# Altium schematic symbol library ESC.SchLib: 65 symbols
Pins are listed as number, name and electrical type; pins without a type are passive.

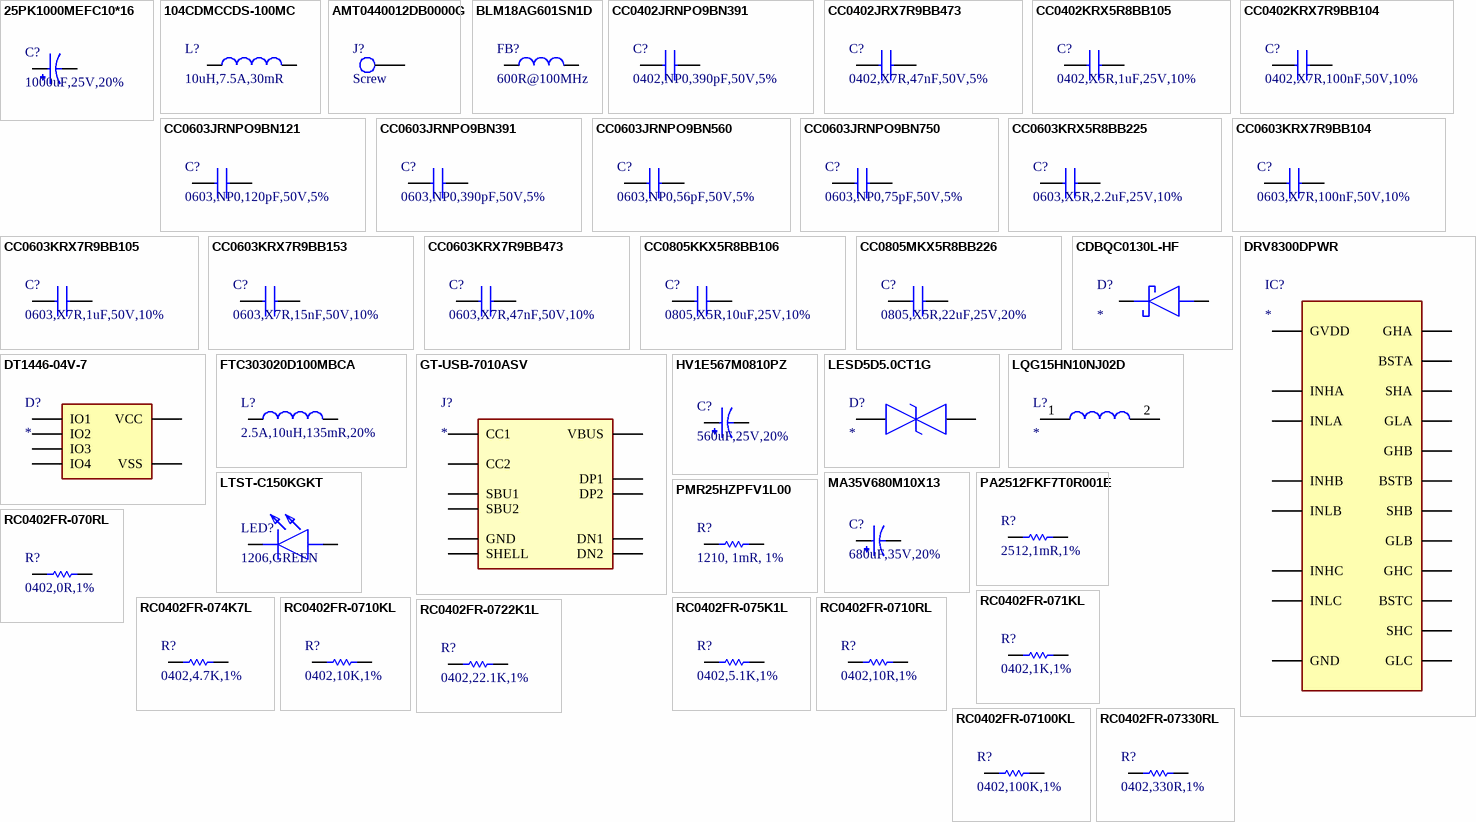
[diagram p0: symbols 25PK1000MEFC10*16 to RC0402FR-07330RL]

## 25PK1000MEFC10*16
designator C?, comment 1000uF,25V,20%
1000uF 25V ±20% 870mA@120Hz Through Hole,D10xL16mm Aluminum Electrolytic Capacitors - Leaded ROHS; LCSC Part #: C109451
footprint CAP-TH_BD10.0-P5.00-D1.0-FD
pins: 1, 2

## 104CDMCCDS-100MC
designator L?, comment 10uH,7.5A,30mR
10 µH Shielded Molded Inductor 7.5 A 30mOhm Max Nonstandard; Manufacturer_Name: Sumida; Manufacturer_Part_Number: 104CDMCCDS-100MC; Datasheet Link: https://componentsearchengine.com/Datasheets/1/104CDMCCDS-100MC.pdf; Height: 4mm; Mouser Part Number: 851-104CDMCCDS-100MC; Mouser Price/Stock: https://www.mouser.co.uk/ProductDetail/Sumida/104CDMCCDS-100MC?qs=D3efs7kfDkXYkMvk7UdnpA%3D%3D; Arrow Part Number: 104CDMCCDS-100MC; Arrow Price/Stock: https://www.arrow.com/en/products/104cdmccds-100mc/sumida?utm_currency=USD&region=nac; LCSC Part #: C2961894
footprint 104CDMCCDS100MC
pins: 1, 2

## AMT0440012DB0000G
designator J?, comment Screw
4 Pin Screw Terminal, Power Tap M4 Through Hole, Right Angle; Manu Part #: AMT0440012DB0000G
footprint AMT0440012DB0000G
pins: 1, 2, 3, 4

## BLM18AG601SN1D
designator FB?, comment 600R@100MHz
380mΩ ±25% 600Ω@100MHz 0603 Ferrite Beads ROHS; LCSC Part #: C19330
footprint L0603
pins: 1, 2

## CC0402JRNPO9BN391
designator C?, comment 0402,NP0,390pF,50V,5%
390 pF ±5% 50V Ceramic Capacitor C0G, NP0 0402 (1005 Metric); Manufacturer_Name: YAGEO; Manufacturer_Part_Number: CC0402KRX7R9BB104; Manu Part #: CC0402JRNPO9BN391; Datasheet Link: https://4donline.ihs.com/images/VipMasterIC/IC/YAGO/YAGO-S-A0003557223/YAGO-S-A0003557223-1.pdf?hkey=6D3A4C79FDBF58556ACFDE234799DDF0; Height: 0.55mm; Mouser Part Number: 603-CC402KRX7R9BB104; Mouser Price/Stock: https://www.mouser.co.uk/ProductDetail/YAGEO/CC0402KRX7R9BB104?qs=vRUrOTOuwyGrQb4GbTIVjw%3D%3D; Arrow Part Number: CC0402KRX7R9BB104; Arrow Price/Stock: https://www.arrow.com/en/products/cc0402krx7r9bb104/yageo?utm_currency=USD&region=europe; LCSC Part #: C282239
footprint CAPC1005X55N
pins: 1, 2

## CC0402JRX7R9BB473
designator C?, comment 0402,X7R,47nF,50V,5%
0.047 µF ±5% 50V Ceramic Capacitor X7R 0402 (1005 Metric); Manufacturer_Name: YAGEO; Manufacturer_Part_Number: CC0402JRX7R9BB473; Datasheet Link: https://4donline.ihs.com/images/VipMasterIC/IC/YAGO/YAGO-S-A0003557223/YAGO-S-A0003557223-1.pdf?hkey=6D3A4C79FDBF58556ACFDE234799DDF0; Height: 0.55mm; Mouser Part Number: 603-CC402KRX7R9BB104; Mouser Price/Stock: https://www.mouser.co.uk/ProductDetail/YAGEO/CC0402KRX7R9BB104?qs=vRUrOTOuwyGrQb4GbTIVjw%3D%3D; Arrow Part Number: CC0402KRX7R9BB104; Arrow Price/Stock: https://www.arrow.com/en/products/cc0402krx7r9bb104/yageo?utm_currency=USD&region=europe; Manu Part #: CC0402JRX7R9BB473; LCSC Part #: C576715
footprint CAPC1005X55N
pins: 1, 2

## CC0402KRX5R8BB105
designator C?, comment 0402,X5R,1uF,25V,10%
1 µF ±10% 25V Ceramic Capacitor X5R 0402 (1005 Metric); Manufacturer_Name: YAGEO; Manufacturer_Part_Number: CC0402KRX7R9BB104; Manu Part #: CC0402KRX5R8BB105; Datasheet Link: https://4donline.ihs.com/images/VipMasterIC/IC/YAGO/YAGO-S-A0003557223/YAGO-S-A0003557223-1.pdf?hkey=6D3A4C79FDBF58556ACFDE234799DDF0; Height: 0.55mm; Mouser Part Number: 603-CC402KRX7R9BB104; Mouser Price/Stock: https://www.mouser.co.uk/ProductDetail/YAGEO/CC0402KRX7R9BB104?qs=vRUrOTOuwyGrQb4GbTIVjw%3D%3D; Arrow Part Number: CC0402KRX7R9BB104; Arrow Price/Stock: https://www.arrow.com/en/products/cc0402krx7r9bb104/yageo?utm_currency=USD&region=europe; LCSC Part #: C326568
footprint CAPC1005X55N
pins: 1, 2

## CC0402KRX7R9BB104
designator C?, comment 0402,X7R,100nF,50V,10%
0.1 µF ±10% 50V Ceramic Capacitor X7R 0402 (1005 Metric); Manufacturer_Name: YAGEO; Manufacturer_Part_Number: CC0402KRX7R9BB104; Datasheet Link: https://4donline.ihs.com/images/VipMasterIC/IC/YAGO/YAGO-S-A0003557223/YAGO-S-A0003557223-1.pdf?hkey=6D3A4C79FDBF58556ACFDE234799DDF0; Height: 0.55mm; Mouser Part Number: 603-CC402KRX7R9BB104; Mouser Price/Stock: https://www.mouser.co.uk/ProductDetail/YAGEO/CC0402KRX7R9BB104?qs=vRUrOTOuwyGrQb4GbTIVjw%3D%3D; Arrow Part Number: CC0402KRX7R9BB104; Arrow Price/Stock: https://www.arrow.com/en/products/cc0402krx7r9bb104/yageo?utm_currency=USD&region=europe; Manu Part #: CC0402KRX7R9BB104; LCSC Part #: C131394
footprint CAPC1005X55N
pins: 1, 2

## CC0603JRNPO9BN121
designator C?, comment 0603,NP0,120pF,50V,5%
50V 120pF NP0 ±5% 0603 Multilayer Ceramic Capacitors MLCC - SMD/SMT ROHS; Manufacturer_Name: YAGEO; Manufacturer_Part_Number: CC0603JRNPO9BN121; Datasheet Link: https://componentsearchengine.com/Datasheets/2/CC0603KRX7R9BB104.pdf; Height: 0.9mm; Mouser Part Number: 603-CC603KRX7R9BB104; Mouser Price/Stock: https://www.mouser.co.uk/ProductDetail/YAGEO/CC0603KRX7R9BB104?qs=vTakOoo5QyLvVCYM2ge8LQ%3D%3D; Arrow Part Number: CC0603KRX7R9BB104; Arrow Price/Stock: https://www.arrow.com/en/products/cc0603krx7r9bb104/yageo?utm_currency=USD&region=europe; LCSC Part #: C107035
footprint CAPC1608X90N
pins: 1, 2

## CC0603JRNPO9BN391
designator C?, comment 0603,NP0,390pF,50V,5%
50V 390pF NP0 ±5% 0603 Ceramic Capacitors RoHS; Manufacturer_Name: YAGEO; Manufacturer_Part_Number: CC0603JRNPO9BN750; Manu Part #: CC0603JRNPO9BN391; Datasheet Link: https://www.yageo.com/upload/media/product/app/datasheet/mlcc/upy-gphc_x7r_6_3v-to-250v.pdf; Height: 0.95mm; Mouser Part Number: 603-CC603KRX7R9BB105; Mouser Price/Stock: https://www.mouser.co.uk/ProductDetail/YAGEO/CC0603KRX7R9BB105?qs=6wERJjOp3mmF17%252BYi8cgJQ%3D%3D; Arrow Part Number: CC0603KRX7R9BB105; Arrow Price/Stock: https://www.arrow.com/en/products/cc0603krx7r9bb105/yageo?utm_currency=USD&region=nac; LCSC Part #: C107050
footprint CAPC1608X90N
pins: 1, 2

## CC0603JRNPO9BN560
designator C?, comment 0603,NP0,56pF,50V,5%
50V 56pF NP0 ±5% 0603 Ceramic Capacitors RoHS; Manufacturer_Name: YAGEO; Manufacturer_Part_Number: CC0603JRNPO9BN560; Datasheet Link: https://www.yageo.com/upload/media/product/app/datasheet/mlcc/upy-gphc_x7r_6_3v-to-250v.pdf; Height: 0.95mm; Mouser Part Number: 603-CC603KRX7R9BB105; Mouser Price/Stock: https://www.mouser.co.uk/ProductDetail/YAGEO/CC0603KRX7R9BB105?qs=6wERJjOp3mmF17%252BYi8cgJQ%3D%3D; Arrow Part Number: CC0603KRX7R9BB105; Arrow Price/Stock: https://www.arrow.com/en/products/cc0603krx7r9bb105/yageo?utm_currency=USD&region=nac; LCSC Part #: C107053
footprint CAPC1608X90N
pins: 1, 2

## CC0603JRNPO9BN750
designator C?, comment 0603,NP0,75pF,50V,5%
50V 75pF NP0 ±5% 0603 Ceramic Capacitors RoHS; Manufacturer_Name: YAGEO; Manufacturer_Part_Number: CC0603JRNPO9BN750; Datasheet Link: https://www.yageo.com/upload/media/product/app/datasheet/mlcc/upy-gphc_x7r_6_3v-to-250v.pdf; Height: 0.95mm; Mouser Part Number: 603-CC603KRX7R9BB105; Mouser Price/Stock: https://www.mouser.co.uk/ProductDetail/YAGEO/CC0603KRX7R9BB105?qs=6wERJjOp3mmF17%252BYi8cgJQ%3D%3D; Arrow Part Number: CC0603KRX7R9BB105; Arrow Price/Stock: https://www.arrow.com/en/products/cc0603krx7r9bb105/yageo?utm_currency=USD&region=nac; LCSC Part #: C282074
footprint CAPC1608X90N
pins: 1, 2

## CC0603KRX5R8BB225
designator C?, comment 0603,X5R,2.2uF,25V,10%
2.2 µF ±10% 25V Ceramic Capacitor X5R 0603 (1608 Metric); Manufacturer_Name: YAGEO; Manufacturer_Part_Number: CC0603JRNPO9BN560; Manu Part #: CC0603KRX5R8BB225; Datasheet Link: https://www.yageo.com/upload/media/product/app/datasheet/mlcc/upy-gphc_x7r_6_3v-to-250v.pdf; Height: 0.95mm; Mouser Part Number: 603-CC603KRX7R9BB105; Mouser Price/Stock: https://www.mouser.co.uk/ProductDetail/YAGEO/CC0603KRX7R9BB105?qs=6wERJjOp3mmF17%252BYi8cgJQ%3D%3D; Arrow Part Number: CC0603KRX7R9BB105; Arrow Price/Stock: https://www.arrow.com/en/products/cc0603krx7r9bb105/yageo?utm_currency=USD&region=nac; LCSC Part #: C309478
footprint CAPC1608X90N
pins: 1, 2

## CC0603KRX7R9BB104
designator C?, comment 0603,X7R,100nF,50V,10%
50V 100nF X7R ±10% 0603 Multilayer Ceramic Capacitors MLCC - SMD/SMT ROHS; Manufacturer_Name: YAGEO; Manufacturer_Part_Number: CC0603KRX7R9BB104; Datasheet Link: https://componentsearchengine.com/Datasheets/2/CC0603KRX7R9BB104.pdf; Height: 0.9mm; Mouser Part Number: 603-CC603KRX7R9BB104; Mouser Price/Stock: https://www.mouser.co.uk/ProductDetail/YAGEO/CC0603KRX7R9BB104?qs=vTakOoo5QyLvVCYM2ge8LQ%3D%3D; Arrow Part Number: CC0603KRX7R9BB104; Arrow Price/Stock: https://www.arrow.com/en/products/cc0603krx7r9bb104/yageo?utm_currency=USD&region=europe; LCSC Part #: C14663
footprint CAPC1608X90N
pins: 1, 2

## CC0603KRX7R9BB105
designator C?, comment 0603,X7R,1uF,50V,10%
50V 1uF X7R ±10% 0603 Multilayer Ceramic Capacitors MLCC - SMD/SMT ROHS; Manufacturer_Name: YAGEO; Manufacturer_Part_Number: CC0603KRX7R9BB105; Datasheet Link: https://www.yageo.com/upload/media/product/app/datasheet/mlcc/upy-gphc_x7r_6_3v-to-250v.pdf; Height: 0.95mm; Mouser Part Number: 603-CC603KRX7R9BB105; Mouser Price/Stock: https://www.mouser.co.uk/ProductDetail/YAGEO/CC0603KRX7R9BB105?qs=6wERJjOp3mmF17%252BYi8cgJQ%3D%3D; Arrow Part Number: CC0603KRX7R9BB105; Arrow Price/Stock: https://www.arrow.com/en/products/cc0603krx7r9bb105/yageo?utm_currency=USD&region=nac; LCSC Part #: C559769
footprint CAPC1608X90N
pins: 1, 2

## CC0603KRX7R9BB153
designator C?, comment 0603,X7R,15nF,50V,10%
50V 15nF X7R ±10% 0603 Multilayer Ceramic Capacitors MLCC - SMD/SMT ROHS; Manufacturer_Name: YAGEO; Manufacturer_Part_Number: CC0603KRX7R9BB153; Datasheet Link: https://componentsearchengine.com/Datasheets/2/CC0603KRX7R9BB104.pdf; Height: 0.9mm; Mouser Part Number: 603-CC603KRX7R9BB104; Mouser Price/Stock: https://www.mouser.co.uk/ProductDetail/YAGEO/CC0603KRX7R9BB104?qs=vTakOoo5QyLvVCYM2ge8LQ%3D%3D; Arrow Part Number: CC0603KRX7R9BB104; Arrow Price/Stock: https://www.arrow.com/en/products/cc0603krx7r9bb104/yageo?utm_currency=USD&region=europe; LCSC Part #: C107076
footprint CAPC1608X90N
pins: 1, 2

## CC0603KRX7R9BB473
designator C?, comment 0603,X7R,47nF,50V,10%
50V 47nF X7R ±10% 0603 Ceramic Capacitors RoHS; Manufacturer_Name: YAGEO; Manufacturer_Part_Number: CC0603JRNPO9BN750; Manu Part #: CC0603KRX7R9BB473; Datasheet Link: https://www.yageo.com/upload/media/product/app/datasheet/mlcc/upy-gphc_x7r_6_3v-to-250v.pdf; Height: 0.95mm; Mouser Part Number: 603-CC603KRX7R9BB105; Mouser Price/Stock: https://www.mouser.co.uk/ProductDetail/YAGEO/CC0603KRX7R9BB105?qs=6wERJjOp3mmF17%252BYi8cgJQ%3D%3D; Arrow Part Number: CC0603KRX7R9BB105; Arrow Price/Stock: https://www.arrow.com/en/products/cc0603krx7r9bb105/yageo?utm_currency=USD&region=nac; LCSC Part #: C107093
footprint CAPC1608X90N
pins: 1, 2

## CC0805KKX5R8BB106
designator C?, comment 0805,X5R,10uF,25V,10%
10 µF ±10% 25V Ceramic Capacitor X5R 0805 (2012 Metric); Manufacturer_Name: YAGEO; Manufacturer_Part_Number: CC0805KKX5R8BB106; Datasheet Link: https://www.yageo.com/upload/media/product/productsearch/datasheet/mlcc/UPY-GPHC_X5R_4V-to-50V_27.pdf; Height: 1.45mm; Mouser Part Number: 603-CC805KKX5R8BB106; Mouser Price/Stock: https://www.mouser.co.uk/ProductDetail/YAGEO/CC0805KKX5R8BB106?qs=57cj7OiSijm89pM64t1AGQ%3D%3D; Arrow Part Number: CC0805KKX5R8BB106; Arrow Price/Stock: https://www.arrow.com/en/products/cc0805kkx5r8bb106/yageo?utm_currency=USD&region=nac; LCSC Part #: C89831
footprint CAPC2012X145N
pins: 1, 2

## CC0805MKX5R8BB226
designator C?, comment 0805,X5R,22uF,25V,20%
25V 22uF X5R ±20% 0805 Ceramic Capacitors RoHS; Manufacturer_Name: YAGEO; Manufacturer_Part_Number: CC0805MKX5R8BB226; Datasheet Link: https://www.yageo.com/upload/media/product/productsearch/datasheet/mlcc/UPY-GPHC_X5R_4V-to-50V_27.pdf; Height: 1.45mm; Mouser Part Number: 603-CC805KKX5R8BB106; Mouser Price/Stock: https://www.mouser.co.uk/ProductDetail/YAGEO/CC0805KKX5R8BB106?qs=57cj7OiSijm89pM64t1AGQ%3D%3D; Arrow Part Number: CC0805KKX5R8BB106; Arrow Price/Stock: https://www.arrow.com/en/products/cc0805kkx5r8bb106/yageo?utm_currency=USD&region=nac; LCSC Part #: C784585
footprint CAPC2012X145N
pins: 1, 2

## CDBQC0130L-HF
designator D?
Diode 30 V 100mA Surface Mount 0402C/SOD-923F; Manufacturer_Name: Comchip Technology; Manufacturer_Part_Number: CDBQC0130L-HF; Datasheet Link: https://www.comchiptech.com/admin/files/product/CDBQC0130L-HF%20RevB681116.pdf; Height: 0.55mm; Mouser Part Number: 750-CDBQC0130L-HF; Mouser Price/Stock: https://www.mouser.co.uk/ProductDetail/Comchip-Technology/CDBQC0130L-HF?qs=YlpJWyuQ3PMlIcuiqEd%2FoA%3D%3D; Arrow Part Number: CDBQC0130L-HF; Arrow Price/Stock: https://www.arrow.com/en/products/cdbqc0130l-hf/comchip-technology?utm_currency=USD&region=nac; Manu Part #: CDBQC0130L-HF; LCSC Part #: C2886012
footprint CDBQC0130LHF
pins: 1 K, 2 A

## DRV8300DPWR
designator IC?
TSSOP-20 Brushless DC (BLDC) Motor Driver ROHS; Manufacturer_Name: Texas Instruments; Manufacturer_Part_Number: DRV8300DPWR; Height: 1.2mm; Mouser Part Number: 595-DRV8300DPWR; Mouser Price/Stock: https://www.mouser.co.uk/ProductDetail/Texas-Instruments/DRV8300DPWR?qs=eP2BKZSCXI6qJbKdYnGwBg%3D%3D; Arrow Part Number: DRV8300DPWR; Arrow Price/Stock: https://www.arrow.com/en/products/drv8300dpwr/texas-instruments?utm_currency=USD&region=nac; LCSC Part #: C3036056
footprint SOP65P640X120-20N
pins: 1 INHA, 2 INHB, 3 INHC, 4 INLA, 5 INLB, 6 INLC, 7 GVDD, 8 GND, 9 GLC, 10 GLB, 11 GLA, 12 SHC, 13 GHC, 14 BSTC, 15 SHB, 16 GHB, 17 BSTB, 18 SHA, 19 GHA, 20 BSTA

## DT1446-04V-7
designator D?
8.5V Clamp 4.7A (8/20µs) Ipp Tvs Diode Surface Mount SOT-563; Manufacturer_Name: Diodes Incorporated; Manufacturer_Part_Number: DT1446-04V-7; Datasheet Link: https://www.diodes.com//assets/Datasheets/DT1446-04V.pdf; Height: 0.6mm; Mouser Part Number: 621-DT1446-04V-7; Mouser Price/Stock: https://www.mouser.co.uk/ProductDetail/Diodes-Incorporated/DT1446-04V-7?qs=5V6w%252Be2aIqaQkUd2yRdmdA%3D%3D; Arrow Part Number: DT1446-04V-7; Arrow Price/Stock: https://www.arrow.com/en/products/dt1446-04v-7/diodes-incorporated; Manu Part #: DT1446-04V-7; LCSC Part #: C460066
footprint SOTFL50P162X60-6N
pins: 1 IO1, 2 VSS, 3 IO2, 4 IO3, 5 VCC, 6 IO4

## FTC303020D100MBCA
designator L?, comment 2.5A,10uH,135mR,20%
2.5A 10uH ±20% 3.8A 135mΩ SMD,3x3mm Fixed Inductors RoHS; Manu Part #: FTC303020D100MBCA; LCSC Part #: C7423323
footprint IND-SMD_L3.0-W3.0_FTC303020D
pins: 1, 2

## GT-USB-7010ASV
designator J?
USB 2.0 3A 1 Surface Mount, Right Angle 16P Female -40℃~+85℃ Type-C SMD USB Connectors ROHS; Manu Part #: GT-USB-7010ASV; LCSC Part #: C2988369
footprint USB-C-SMD_G-SWITCH_GT-USB-7010ASV
pins: 1 SHELL, 2 SHELL, 3 SHELL, 4 SHELL, A1B12 GND, A4B9 VBUS, A5 CC1, A6 DP1, A7 DN1, A8 SBU1, B1A12 GND, B4A9 VBUS, B5 CC2, B6 DP2, B7 DN2, B8 SBU2

## HV1E567M0810PZ
designator C?, comment 560uF,25V,20%
25V 560uF ±20% SMD,D8xL10.5mm Aluminum - Polymer Capacitors RoHS; Manu Part #: HV1E567M0810PZ; LCSC Part #: C5246548
footprint CAP-SMD_BD8.0-L8.3-W8.3-FD
pins: 1, 2

## LESD5D5.0CT1G
designator D?
9.4A 18.6V 5.6V Bidirectional 5V SOD-523 ESD and Surge Protection (TVS/ESD) ROHS; Manufacturer_Name: LRC; Manufacturer_Part_Number: LESD5D5.0CT1G; Height: 0.7mm; LCSC Part #: C383211
footprint LESD5D50CT1G
pins: 1, 2

## LQG15HN10NJ02D
designator L?
Inductor; Manufacturer_Name: Murata Electronics; Manufacturer_Part_Number: LQG15HN10NJ02D; Datasheet Link: https://search.murata.co.jp/Ceramy/image/img/P02/JELF243B-0009.pdf; Height: 0.6mm; Mouser Part Number: 81-LQG15HN10NJ02D; Mouser Price/Stock: https://www.mouser.co.uk/ProductDetail/Murata-Electronics/LQG15HN10NJ02D?qs=6Rxi8erFDnyLVNlqv7OZMg%3D%3D; Arrow Part Number: LQG15HN10NJ02D; Arrow Price/Stock: https://www.arrow.com/en/products/lqg15hn10nj02d/murata-manufacturing
footprint LQG15WH0N7B02D
pins: 1, 2

## LTST-C150KGKT
designator LED?, comment 1206,GREEN
20mA 44.5mcd Water Clear -55℃~+85℃ 571nm Yellow Green 130° 75mW 2V 1206 LED Indication - Discrete ROHS; Manufacturer_Name: Lite-On; Manufacturer_Part_Number: LTST-C150KGKT; Datasheet Link: http://optoelectronics.liteon.com/upload/download/ds22-2000-072/ltst-c150kgkt.pdf; Height: 1.2mm; Mouser Part Number: 859-LTST-C150KGKT; Mouser Price/Stock: https://www.mouser.co.uk/ProductDetail/Lite-On/LTST-C150KGKT?qs=G7lFeYdtIHB%2FzaFKBwEyXw%3D%3D; Arrow Part Number: LTST-C150KGKT; Arrow Price/Stock: https://www.arrow.com/en/products/ltst-c150kgkt/lite-on-technology?utm_currency=USD&region=nac; LCSC Part #: C125085; Manu Part #: LTST-C150KGKT
footprint LEDC3216X120N
pins: 1 K, 2 A

## MA35V680M10X13
designator C?, comment 680uF,35V,20%
35V 680uF Polymer ±20% 18mΩ@100kHz 3.9A@100kHz SMD,D10xL13.5mm Aluminum - Polymer Capacitors RoHS; LCSC Part #: C48971043
footprint CAP-SMD_BD10.0-L10.3-W10.3-FD-LS11.0_H12.0
pins: 1, 2

## PA2512FKF7T0R001E
designator R?, comment 2512,1mR,1%
3W 1mΩ Surface Mount Current Sense Resistor ±100ppm/℃ ±1% 2512 Current Sense Resistors / Shunt Resistors ROHS; LCSC Part #: C723380
footprint RES-SMD_L6.4-W3.2_RLP25
pins: 1, 2

## PMR25HZPFV1L00
designator R?, comment 1210, 1mR, 1%
1W 1mΩ Current Sense Resistor ±100ppm/℃ ±1% 1210 Current Sense Resistors / Shunt Resistors ROHS; LCSC Part #: C509735
footprint R1210
pins: 1, 2

## RC0402FR-070RL
designator R?, comment 0402,0R,1%
0 Ohms Jumper Chip Resistor 0402 (1005 Metric) Moisture Resistant Thick Film; Manufacturer_Name: YAGEO; Manufacturer_Part_Number: RC0402FR-0710KL; Manu Part #: RC0402FR-070RL; Datasheet Link: https://componentsearchengine.com/Datasheets/2/RC0402FR-0710KL.pdf; Height: 0.4mm; Mouser Part Number: 603-RC0402FR-0710KL; Mouser Price/Stock: https://www.mouser.co.uk/ProductDetail/YAGEO/RC0402FR-0710KL?qs=I1mnnYJTTsxUoNwrUsQExA%3D%3D; Arrow Part Number: RC0402FR-0710KL; Arrow Price/Stock: https://www.arrow.com/en/products/rc0402fr-0710kl/yageo?region=europe; LCSC Part #: C106231
footprint RESC1005X40N
pins: 1, 2

## RC0402FR-071KL
designator R?, comment 0402,1K,1%
1 kOhms ±1% 0.063W, 1/16W Chip Resistor 0402 (1005 Metric) Moisture Resistant Thick Film; Manufacturer_Name: YAGEO; Manufacturer_Part_Number: RC0402FR-0710KL; Manu Part #: RC0402FR-071KL; Datasheet Link: https://componentsearchengine.com/Datasheets/2/RC0402FR-0710KL.pdf; Height: 0.4mm; Mouser Part Number: 603-RC0402FR-0710KL; Mouser Price/Stock: https://www.mouser.co.uk/ProductDetail/YAGEO/RC0402FR-0710KL?qs=I1mnnYJTTsxUoNwrUsQExA%3D%3D; Arrow Part Number: RC0402FR-0710KL; Arrow Price/Stock: https://www.arrow.com/en/products/rc0402fr-0710kl/yageo?region=europe; LCSC Part #: C106235
footprint RESC1005X40N
pins: 1, 2

## RC0402FR-074K7L
designator R?, comment 0402,4.7K,1%
4.7 kOhms ±1% 0.063W, 1/16W Chip Resistor 0402 (1005 Metric) Moisture Resistant Thick Film; Manufacturer_Name: YAGEO; Manufacturer_Part_Number: RC0402FR-0710KL; Manu Part #: RC0402FR-074K7L; Datasheet Link: https://componentsearchengine.com/Datasheets/2/RC0402FR-0710KL.pdf; Height: 0.4mm; Mouser Part Number: 603-RC0402FR-0710KL; Mouser Price/Stock: https://www.mouser.co.uk/ProductDetail/YAGEO/RC0402FR-0710KL?qs=I1mnnYJTTsxUoNwrUsQExA%3D%3D; Arrow Part Number: RC0402FR-0710KL; Arrow Price/Stock: https://www.arrow.com/en/products/rc0402fr-0710kl/yageo?region=europe; LCSC Part #: C105871
footprint RESC1005X40N
pins: 1, 2

## RC0402FR-075K1L
designator R?, comment 0402,5.1K,1%
5.1 kOhms ±1% 0.063W, 1/16W Chip Resistor 0402 (1005 Metric) Moisture Resistant Thick Film; Manufacturer_Name: YAGEO; Manufacturer_Part_Number: RC0402FR-0710KL; Manu Part #: RC0402FR-075K1L; Datasheet Link: https://componentsearchengine.com/Datasheets/2/RC0402FR-0710KL.pdf; Height: 0.4mm; Mouser Part Number: 603-RC0402FR-0710KL; Mouser Price/Stock: https://www.mouser.co.uk/ProductDetail/YAGEO/RC0402FR-0710KL?qs=I1mnnYJTTsxUoNwrUsQExA%3D%3D; Arrow Part Number: RC0402FR-0710KL; Arrow Price/Stock: https://www.arrow.com/en/products/rc0402fr-0710kl/yageo?region=europe; LCSC Part #: C105872
footprint RESC1005X40N
pins: 1, 2

## RC0402FR-0710KL
designator R?, comment 0402,10K,1%
10 kOhms ±1% 0.063W, 1/16W Chip Resistor 0402 (1005 Metric) Moisture Resistant Thick Film; Manufacturer_Name: YAGEO; Manufacturer_Part_Number: RC0402FR-0710KL; Datasheet Link: https://componentsearchengine.com/Datasheets/2/RC0402FR-0710KL.pdf; Height: 0.4mm; Mouser Part Number: 603-RC0402FR-0710KL; Mouser Price/Stock: https://www.mouser.co.uk/ProductDetail/YAGEO/RC0402FR-0710KL?qs=I1mnnYJTTsxUoNwrUsQExA%3D%3D; Arrow Part Number: RC0402FR-0710KL; Arrow Price/Stock: https://www.arrow.com/en/products/rc0402fr-0710kl/yageo?region=europe; Manu Part #: RC0402FR-0710KL; LCSC Part #: C60490
footprint RESC1005X40N
pins: 1, 2

## RC0402FR-0710RL
designator R?, comment 0402,10R,1%
10 Ohms ±1% 0.063W, 1/16W Chip Resistor 0402 (1005 Metric) Moisture Resistant Thick Film; Manufacturer_Name: YAGEO; Manufacturer_Part_Number: RC0402FR-0710KL; Manu Part #: RC0402FR-0710RL; Datasheet Link: https://componentsearchengine.com/Datasheets/2/RC0402FR-0710KL.pdf; Height: 0.4mm; Mouser Part Number: 603-RC0402FR-0710KL; Mouser Price/Stock: https://www.mouser.co.uk/ProductDetail/YAGEO/RC0402FR-0710KL?qs=I1mnnYJTTsxUoNwrUsQExA%3D%3D; Arrow Part Number: RC0402FR-0710KL; Arrow Price/Stock: https://www.arrow.com/en/products/rc0402fr-0710kl/yageo?region=europe; LCSC Part #: C138066
footprint RESC1005X40N
pins: 1, 2

## RC0402FR-0722K1L
designator R?, comment 0402,22.1K,1%
22.1 kOhms ±1% 0.063W, 1/16W Chip Resistor 0402 (1005 Metric) Moisture Resistant Thick Film; Manufacturer_Name: YAGEO; Manufacturer_Part_Number: RC0402FR-0710KL; Manu Part #: RC0402FR-0722K1L; Datasheet Link: https://componentsearchengine.com/Datasheets/2/RC0402FR-0710KL.pdf; Height: 0.4mm; Mouser Part Number: 603-RC0402FR-0710KL; Mouser Price/Stock: https://www.mouser.co.uk/ProductDetail/YAGEO/RC0402FR-0710KL?qs=I1mnnYJTTsxUoNwrUsQExA%3D%3D; Arrow Part Number: RC0402FR-0710KL; Arrow Price/Stock: https://www.arrow.com/en/products/rc0402fr-0710kl/yageo?region=europe; LCSC Part #: C163478
footprint RESC1005X40N
pins: 1, 2

## RC0402FR-07100KL
designator R?, comment 0402,100K,1%
100 kOhms ±1% 0.063W, 1/16W Chip Resistor 0402 (1005 Metric) Moisture Resistant Thick Film; Manufacturer_Name: YAGEO; Manufacturer_Part_Number: RC0402FR-0710KL; Manu Part #: RC0402FR-07100KL; Datasheet Link: https://componentsearchengine.com/Datasheets/2/RC0402FR-0710KL.pdf; Height: 0.4mm; Mouser Part Number: 603-RC0402FR-0710KL; Mouser Price/Stock: https://www.mouser.co.uk/ProductDetail/YAGEO/RC0402FR-0710KL?qs=I1mnnYJTTsxUoNwrUsQExA%3D%3D; Arrow Part Number: RC0402FR-0710KL; Arrow Price/Stock: https://www.arrow.com/en/products/rc0402fr-0710kl/yageo?region=europe; LCSC Part #: C60491
footprint RESC1005X40N
pins: 1, 2

## RC0402FR-07330RL
designator R?, comment 0402,330R,1%
330 Ohms ±1% 0.063W, 1/16W Chip Resistor 0402 (1005 Metric) Moisture Resistant Thick Film; Manufacturer_Name: YAGEO; Manufacturer_Part_Number: RC0402FR-0710KL; Manu Part #: RC0402FR-07330RL; Datasheet Link: https://componentsearchengine.com/Datasheets/2/RC0402FR-0710KL.pdf; Height: 0.4mm; Mouser Part Number: 603-RC0402FR-0710KL; Mouser Price/Stock: https://www.mouser.co.uk/ProductDetail/YAGEO/RC0402FR-0710KL?qs=I1mnnYJTTsxUoNwrUsQExA%3D%3D; Arrow Part Number: RC0402FR-0710KL; Arrow Price/Stock: https://www.arrow.com/en/products/rc0402fr-0710kl/yageo?region=europe; LCSC Part #: C105875
footprint RESC1005X40N
pins: 1, 2

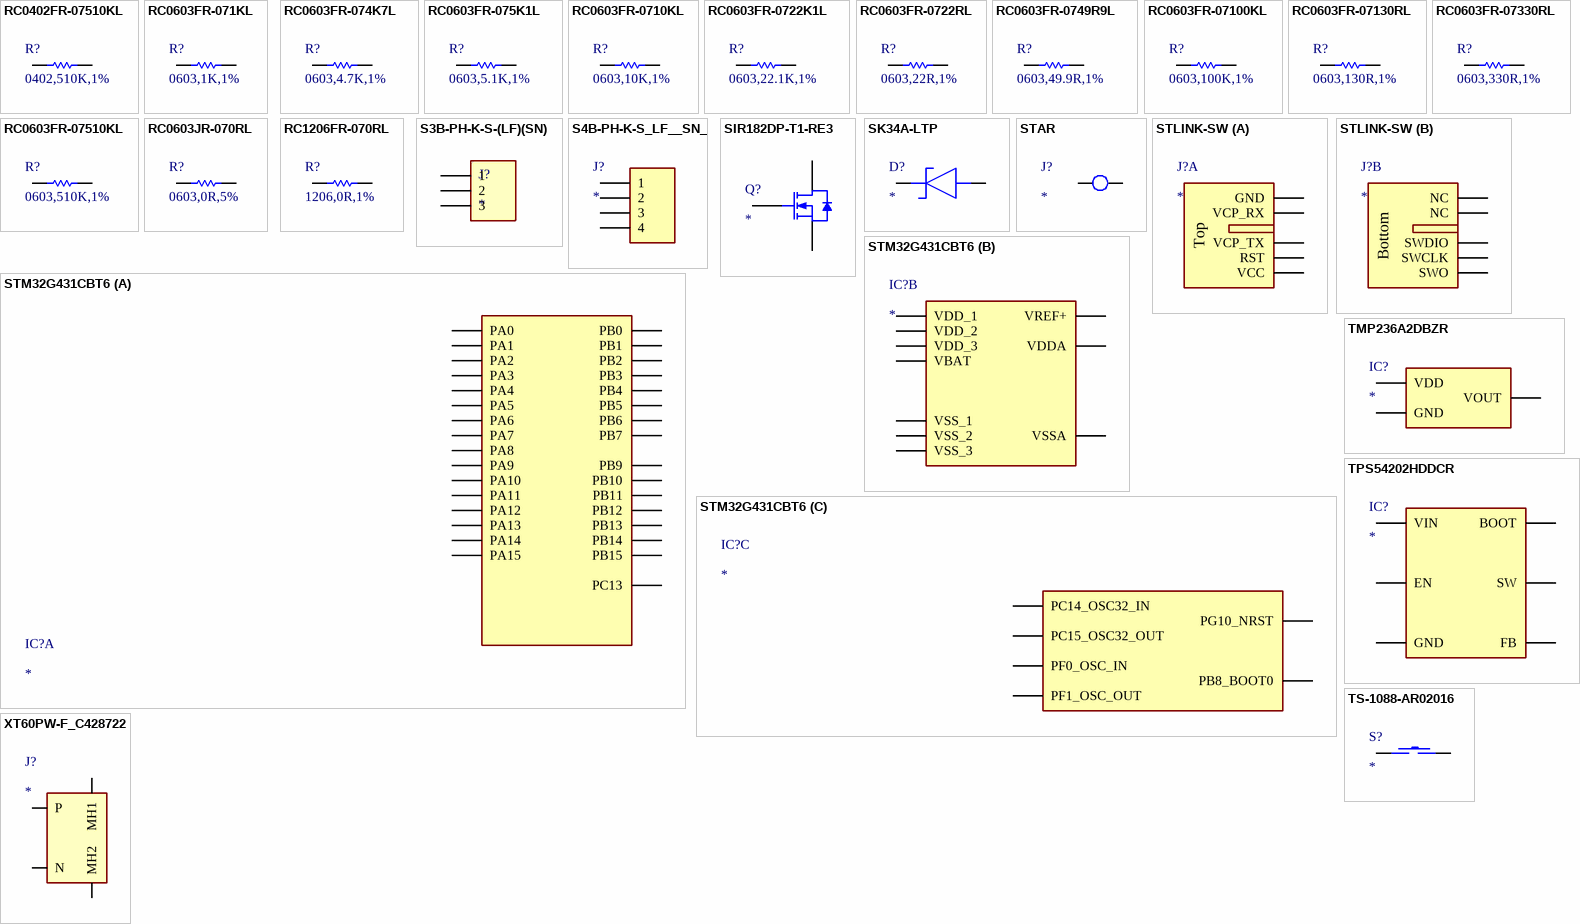
[diagram p1: symbols RC0402FR-07510KL to XT60PW-F_C428722]

## RC0402FR-07510KL
designator R?, comment 0402,510K,1%
510 kOhms ±1% 0.063W, 1/16W Chip Resistor 0402 (1005 Metric) Moisture Resistant Thick Film; Manufacturer_Name: YAGEO; Manufacturer_Part_Number: RC0402FR-0710KL; Manu Part #: RC0402FR-07510KL; Datasheet Link: https://componentsearchengine.com/Datasheets/2/RC0402FR-0710KL.pdf; Height: 0.4mm; Mouser Part Number: 603-RC0402FR-0710KL; Mouser Price/Stock: https://www.mouser.co.uk/ProductDetail/YAGEO/RC0402FR-0710KL?qs=I1mnnYJTTsxUoNwrUsQExA%3D%3D; Arrow Part Number: RC0402FR-0710KL; Arrow Price/Stock: https://www.arrow.com/en/products/rc0402fr-0710kl/yageo?region=europe; LCSC Part #: C137961
footprint RESC1005X40N
pins: 1, 2

## RC0603FR-071KL
designator R?, comment 0603,1K,1%
100mW Thick Film Resistor 75V ±100ppm/℃ ±1% 1kΩ 0603 Chip Resistor - Surface Mount ROHS; Manufacturer_Name: YAGEO; Manufacturer_Part_Number: RC0603FR-071KL; Datasheet Link: https://www.mouser.com/catalog/specsheets/YAGEO_PYu_RC_Group_51_RoHS_L_12.pdf; Height: 0.55mm; LCSC Part #: C22548
footprint RESC1608X55N
pins: 1, 2

## RC0603FR-074K7L
designator R?, comment 0603,4.7K,1%
100mW Thick Film Resistor 75V ±100ppm/℃ ±1% 4.7kΩ 0603 Chip Resistor - Surface Mount ROHS; Manufacturer_Name: YAGEO; Manufacturer_Part_Number: RC0603FR-074K7L; Datasheet Link: https://www.mouser.com/catalog/specsheets/YAGEO_PYu_RC_Group_51_RoHS_L_12.pdf; Height: 0.55mm; LCSC Part #: C99782
footprint RESC1608X55N
pins: 1, 2

## RC0603FR-075K1L
designator R?, comment 0603,5.1K,1%
100mW 5.1kΩ 75V ±100ppm/℃ Thick Film Resistor ±1% 0603 Chip Resistor - Surface Mount RoHS; Manufacturer_Name: YAGEO; Manufacturer_Part_Number: RC0603FR-075K1L; Datasheet Link: https://www.mouser.com/catalog/specsheets/YAGEO_PYu_RC_Group_51_RoHS_L_12.pdf; Height: 0.55mm; LCSC Part #: C105580
footprint RESC1608X55N
pins: 1, 2

## RC0603FR-0710KL
designator R?, comment 0603,10K,1%
100mW 10kΩ 75V ±100ppm/℃ Thick Film Resistor ±1% 0603 Chip Resistor - Surface Mount RoHS; Manufacturer_Name: YAGEO; Manufacturer_Part_Number: RC0603FR-0710KL; Datasheet Link: https://www.mouser.com/catalog/specsheets/YAGEO_PYu_RC_Group_51_RoHS_L_12.pdf; Height: 0.55mm; LCSC Part #: C98220
footprint RESC1608X55N
pins: 1, 2

## RC0603FR-0722K1L
designator R?, comment 0603,22.1K,1%
22.1kΩ 100mW 75V ±100ppm/℃ Thick Film Resistor ±1% 0603 Chip Resistor - Surface Mount RoHS; Manufacturer_Name: YAGEO; Manufacturer_Part_Number: RC0603FR-0722K1L; Datasheet Link: https://www.mouser.com/catalog/specsheets/YAGEO_PYu_RC_Group_51_RoHS_L_12.pdf; Height: 0.55mm; LCSC Part #: C137768
footprint RESC1608X55N
pins: 1, 2

## RC0603FR-0722RL
designator R?, comment 0603,22R,1%
100mW Thick Film Resistor 75V ±100ppm/℃ ±1% 22Ω 0603 Chip Resistor - Surface Mount ROHS; Manufacturer_Name: YAGEO; Manufacturer_Part_Number: RC0603FR-0722RL; Datasheet Link: http://www.farnell.com/datasheets/1868787.pdf; Height: 0.55mm; Mouser Part Number: 603-RC0603FR-0722RL; Mouser Price/Stock: https://www.mouser.co.uk/ProductDetail/YAGEO/RC0603FR-0722RL?qs=diQw95jMAeMOsxb8bne7fg%3D%3D; Arrow Part Number: RC0603FR-0722RL; Arrow Price/Stock: https://www.arrow.com/en/products/rc0603fr-0722rl/yageo?region=nac; LCSC Part #: C107701
footprint RESC1608X55N
pins: 1, 2

## RC0603FR-0749R9L
designator R?, comment 0603,49.9R,1%
100mW 49.9Ω 75V ±100ppm/℃ Thick Film Resistor ±1% 0603 Chip Resistor - Surface Mount RoHS; Manufacturer_Name: YAGEO; Manufacturer_Part_Number: RC0603FR-0749R9L; Datasheet Link: https://www.mouser.com/catalog/specsheets/YAGEO_PYu_RC_Group_51_RoHS_L_12.pdf; Height: 0.55mm; LCSC Part #: C114625
footprint RESC1608X55N
pins: 1, 2

## RC0603FR-07100KL
designator R?, comment 0603,100K,1%
100mW Thick Film Resistor 75V ±100ppm/℃ ±1% 100kΩ 0603 Chip Resistor - Surface Mount ROHS; Manufacturer_Name: YAGEO; Manufacturer_Part_Number: RC0603FR-07100KL; Datasheet Link: https://www.mouser.com/catalog/specsheets/YAGEO_PYu_RC_Group_51_RoHS_L_12.pdf; Height: 0.55mm; LCSC Part #: C14675
footprint RESC1608X55N
pins: 1, 2

## RC0603FR-07130RL
designator R?, comment 0603,130R,1%
130 Ohms ±1% 0.1W, 1/10W Chip Resistor 0603 (1608 Metric) Moisture Resistant Thick Film; Manufacturer_Name: YAGEO; Manufacturer_Part_Number: RC0603FR-07130RL; Datasheet Link: https://www.mouser.com/catalog/specsheets/YAGEO_PYu_RC_Group_51_RoHS_L_12.pdf; Height: 0.55mm; LCSC Part #: C141677
footprint RESC1608X55N
pins: 1, 2

## RC0603FR-07330RL
designator R?, comment 0603,330R,1%
100mW 330Ω 75V ±100ppm/℃ Thick Film Resistor ±1% 0603 Chip Resistor - Surface Mount RoHS; Manufacturer_Name: YAGEO; Manufacturer_Part_Number: RC0603FR-07330RL; Datasheet Link: https://www.mouser.com/catalog/specsheets/YAGEO_PYu_RC_Group_51_RoHS_L_12.pdf; Height: 0.55mm; LCSC Part #: C105881; Manu Part #: RC0603FR-07330RL
footprint RESC1608X55N
pins: 1, 2

## RC0603FR-07510KL
designator R?, comment 0603,510K,1%
100mW 510kΩ 75V ±100ppm/℃ Thick Film Resistor ±1% 0603 Chip Resistor - Surface Mount RoHS; Manufacturer_Name: YAGEO; Manufacturer_Part_Number: RC0603FR-07510KL; Datasheet Link: https://www.mouser.com/catalog/specsheets/YAGEO_PYu_RC_Group_51_RoHS_L_12.pdf; Height: 0.55mm; LCSC Part #: C114066; Manu Part #: RC0603FR-07510KL
footprint RESC1608X55N
pins: 1, 2

## RC0603JR-070RL
designator R?, comment 0603,0R,5%
100mW Thick Film Resistor 75V ±5% 0Ω 0603 Chip Resistor - Surface Mount ROHS; Manufacturer_Name: YAGEO; Manufacturer_Part_Number: RC0603JR-070RL; Datasheet Link: https://www.mouser.com/catalog/specsheets/YAGEO_PYu_RC_Group_51_RoHS_L_12.pdf; Height: 0.55mm; LCSC Part #: C95177
footprint RESC1608X55N
pins: 1, 2

## RC1206FR-070RL
designator R?, comment 1206,0R,1%
0Ω 250mW 200V Thick Film Resistor ±1% 1206 Chip Resistor - Surface Mount RoHS; Manufacturer_Name: YAGEO; Manufacturer_Part_Number: RC1206FR-070RL; Datasheet Link: https://www.yageogroup.com/content/datasheet/asset/file/PYU-RC_GROUP_51_ROHS_L; Height: 0.65mm; Mouser Part Number: 603-RC1206FR-070RL; Mouser Price/Stock: https://www.mouser.co.uk/ProductDetail/YAGEO/RC1206FR-070RL?qs=%2FbpERZPLKKvgeF8VBtNQLg%3D%3D; Arrow Part Number: RC1206FR-070RL; Arrow Price/Stock: https://www.arrow.com/en/products/rc1206fr-070rl/yageo?region=nac; Manu Part #: RC1206FR-070RL; LCSC Part #: C137394
footprint RESC3116X65N
pins: 1, 2

## S3B-PH-K-S-(LF)(SN)
designator J?
3P 1x3P PH Tin -25℃~+85℃ White 2mm 100V 3 2A 1 Right Angle Through Hole,Right Angle,P=2mm Headers, Male Pins RoHS; Manu Part #: S3B-PH-K-S-(LF)(SN); LCSC Part #: C157929
footprint CONN-TH_3P-P2.00_S3B-PH-K-S-LF-SN
pins: 1, 2, 3

## S4B-PH-K-S_LF__SN_
designator J?
1x4P 4P PH Tin 4 -25℃~+85℃ 2A 1 2mm Brass Right Angle Through Hole,Right Angle,P=2mm Wire To Board Connector ROHS; Manufacturer_Name: JST (JAPAN SOLDERLESS TERMINALS); Manufacturer_Part_Number: S4B-PH-K-S(LF)(SN); Datasheet Link: https://datasheet.lcsc.com/szlcsc/JST-Sales-America-PHsocket-1-4P-Curved-needle-pitch2mm_C157926.pdf; Height: 4.8mm; Mouser Part Number: N/A; Mouser Price/Stock: https://www.mouser.co.uk/ProductDetail/JST-Commercial/S4B-PH-K-SLFSN?qs=QpmGXVUTftEGA16rwNx4xw%3D%3D; Arrow Part Number: S4B-PH-K-S(LF)(SN); Arrow Price/Stock: https://www.arrow.com/en/products/s4b-ph-k-s-lf-sn/jst-manufacturing?utm_currency=USD&region=europe; LCSC Part #: C157926
footprint SHDRRA4W50P0X200_1X4_990X760X480P
pins: 1, 2, 3, 4

## SIR182DP-T1-RE3
designator Q?
60V 117A 2.8mΩ@10V,15A 2V 1 N-Channel PowerPAKSO-8 MOSFETs ROHS; LCSC Part #: C467943
footprint POWERPAK-SO-8_L5.9-W4.9-P1.27-LS6.2-BL
pins: 1 S, 2 S, 3 S, 4 G, 5 D, 6 D, 7 D, 8 D

## SK34A-LTP
designator D?
80A 40V 500mV@3A 3A SMA(DO-214AC) Single Diodes RoHS; Manufacturer_Name: MCC; Manufacturer_Part_Number: SK34A-LTP; Datasheet Link: https://mccsemi.com/pdf/Products/SK32A-L-SK310A-L(DO-214AC).pdf; Height: 2.44mm; Mouser Part Number: 833-SK34A-LTP; Mouser Price/Stock: https://www.mouser.co.uk/ProductDetail/Micro-Commercial-Components-MCC/SK34A-LTP?qs=JeAkOuORR2VPwzg48d%252BVAA%3D%3D; Arrow Part Number: SK34A-LTP; Arrow Price/Stock: https://www.arrow.com/en/products/sk34a-ltp/micro-commercial-components?utm_currency=USD&region=nac; Manu Part #: SK34A-LTP; LCSC Part #: C85269
footprint SK34ALTP
pins: 1 K, 2 A

## STAR
designator J?
footprint STAR
pins: 1, 1

## STLINK-SW
designator J?  (no BOM)
SSL Connector 10 Position Adapter, Bridge Board to Board - Card Edge 0.079" (2.00mm)
footprint 009159010061911
part A pins: 1 GND, 2 VCP_RX, 3 VCP_TX, 4 RST, 5 VCC
part B pins: 6 NC, 7 NC, 8 SWDIO, 9 SWCLK, 10 SWO
part A text: Top
part B text: Bottom

## STM32G431CBT6
designator IC?
Arm Cortex-M4 32-bit MCU+FPU, 170 MHz / 213 DMIPS, up to 128 KB Flash, 32 KB SRAM, rich analog, math accelerator; Manufacturer_Name: STMicroelectronics; Manufacturer_Part_Number: STM32G431CBT6; Datasheet Link: https://www.st.com/resource/en/datasheet/stm32g431cb.pdf; Height: 1.6mm; Mouser Part Number: 511-STM32G431CBT6; Mouser Price/Stock: https://www.mouser.co.uk/ProductDetail/STMicroelectronics/STM32G431CBT6?qs=T3oQrply3y8OocyGDXq5wg%3D%3D; Arrow Part Number: STM32G431CBT6; Arrow Price/Stock: https://www.arrow.com/en/products/stm32g431cbt6/stmicroelectronics?utm_currency=USD&region=nac; LCSC Part #: C529355
footprint QFP50P900X900X160-48N
part A pins: 2 PC13, 8 PA0, 9 PA1, 10 PA2, 11 PA3, 12 PA4, 13 PA5, 14 PA6, 15 PA7, 16 PB0, 17 PB1, 18 PB2, 22 PB10, 25 PB11, 26 PB12, 27 PB13, 28 PB14, 29 PB15, 30 PA8, 31 PA9, 32 PA10, 33 PA11, 34 PA12, 37 PA13, 38 PA14, 39 PA15, 40 PB3, 41 PB4, 42 PB5, 43 PB6, 44 PB7, 46 PB9
part B pins: 1 VBAT, 19 VSSA, 20 VREF+, 21 VDDA, 23 VSS_1, 24 VDD_1, 35 VSS_2, 36 VDD_2, 47 VSS_3, 48 VDD_3
part C pins: 3 PC14_OSC32_IN, 4 PC15_OSC32_OUT, 5 PF0_OSC_IN, 6 PF1_OSC_OUT, 7 PG10_NRST, 45 PB8_BOOT0

## TMP236A2DBZR
designator IC?
Low-power and high-precision analog output temperature sensor; Manufacturer_Name: Texas Instruments; Manufacturer_Part_Number: TMP236A2DBZR; Datasheet Link: http://www.ti.com/lit/gpn/tmp236; Height: 1.12mm; Mouser Part Number: 595-TMP236A2DBZR; Mouser Price/Stock: https://www.mouser.co.uk/ProductDetail/Texas-Instruments/TMP236A2DBZR?qs=lc2O%252BfHJPVanftlPgPUvow%3D%3D; Arrow Part Number: TMP236A2DBZR; Arrow Price/Stock: https://www.arrow.com/en/products/tmp236a2dbzr/texas-instruments?region=nac; LCSC Part #: C2859666
footprint SOT95P237X112-3N
pins: 1 VDD, 2 VOUT, 3 GND

## TPS54202HDDCR
designator IC?
500kHz 2A Buck Adjustable 596mV~28V 1 TSOT-23-6 Voltage Regulators - DC DC Switching Regulators RoHS; Manufacturer_Name: Texas Instruments; Manufacturer_Part_Number: TPS54202HDDCR; Datasheet Link: http://www.ti.com/lit/gpn/tps54202h; Height: 1.1mm; Mouser Part Number: 595-TPS54202HDDCR; Mouser Price/Stock: https://www.mouser.co.uk/ProductDetail/Texas-Instruments/TPS54202HDDCR?qs=uP22XH7NdCtzy%252BOdxI8qhQ%3D%3D; Arrow Part Number: TPS54202HDDCR; Arrow Price/Stock: https://www.arrow.com/en/products/tps54202hddcr/texas-instruments?utm_currency=USD&region=europe; Manu Part #: TPS54202HDDCR; LCSC Part #: C527684
footprint SOT95P280X100-6N
pins: 1 GND, 2 SW, 3 VIN, 4 FB, 5 EN, 6 BOOT

## TS-1088-AR02016
designator S?
Without Bracket 50mA 4mm 100,000 Cycles 12V 1.6N 3mm 2mm Round Button Surface Mount,Vertical SPST SMD Tactile Switches ROHS; Manu Part #: TS-1088-AR02016; LCSC Part #: C720477
footprint SW-SMD_L3.9-W3.0-P4.45
pins: 1, 2

## XT60PW-F_C428722
designator J?
Banana and Tip Connector Adapters; Manu Part #: XT60PW-F; LCSC Part #: C428722
footprint TH_2P-XT60PW-F
pins: 1 MH1, 2 MH2, 3 P, 4 N